# EAGLE library part DA14580-BGA (library chips_old)
WLCSP package of low power BLE chip
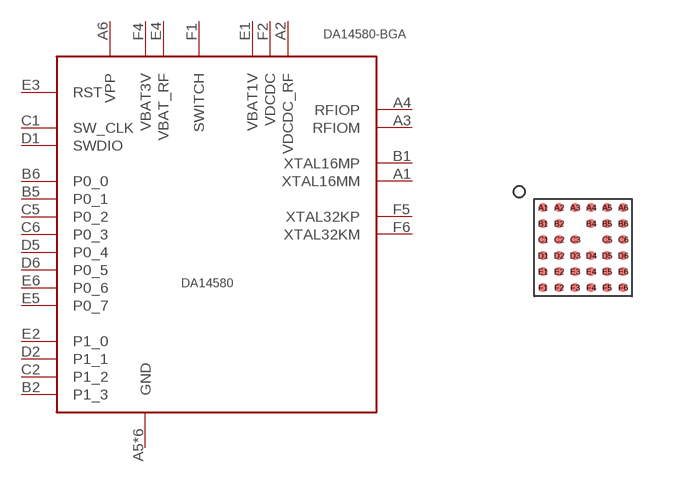
[diagram p35: symbol with the pads of WLCSP-34; footprint WLCSP-34]

Designator prefix -

## DA14580-BGA (DIGIKEY: 1564-1012-1-ND)  [WLCSP-34]
A1  XTAL16MM
A2  VDCDC_RF
A3  RFIOM
A4  RFIOP
A5  GND
A6  VPP
B1  XTAL16MP
B2  P1_3
B4  GND
B5  P0_1
B6  P0_0
C1  SW_CLK
C2  P1_2
C3  GND
C5  P0_2
C6  P0_3
D1  SWDIO
D2  P1_1
D3  GND
D4  GND
D5  P0_4
D6  P0_5
E1  VBAT1V
E2  P1_0
E3  RST
E4  VBAT_RF
E5  P0_7
E6  P0_6
F1  SWITCH
F2  VDCDC
F3  GND
F4  VBAT3V
F5  XTAL32KP
F6  XTAL32KM

## Footprint WLCSP-34 (pad centres in mm)
smd 0.22 x 0.22: A1 0,2; A2 0.4,2; A3 0.8,2; A4 1.2,2; A5 1.6,2; A6 2,2; B1 0,1.6; B2 0.4,1.6; B4 1.2,1.6; B5 1.6,1.6; B6 2,1.6; C1 0,1.2; C2 0.4,1.2; C3 0.8,1.2; C5 1.6,1.2; C6 2,1.2; D1 0,0.8; D2 0.4,0.8; D3 0.8,0.8; D4 1.2,0.8; D5 1.6,0.8; D6 2,0.8; E1 0,0.4; E2 0.4,0.4; E3 0.8,0.4; E4 1.2,0.4; E5 1.6,0.4; E6 2,0.4; F1 0,0; F2 0.4,0; F3 0.8,0; F4 1.2,0; F5 1.6,0; F6 2,0